# Altium footprint library Diode ss16.PcbLib: 1 footprints
Each footprint in its own frame and in the unit in brackets; x right, y up, seen from the top. Pads: shape width x height; smd on the part's side, far side on the other; paste and mask are expansions set on the pad; w line width, h text height; cw(c..) or ccw(c..) is an arc to the next point about the centre after c.
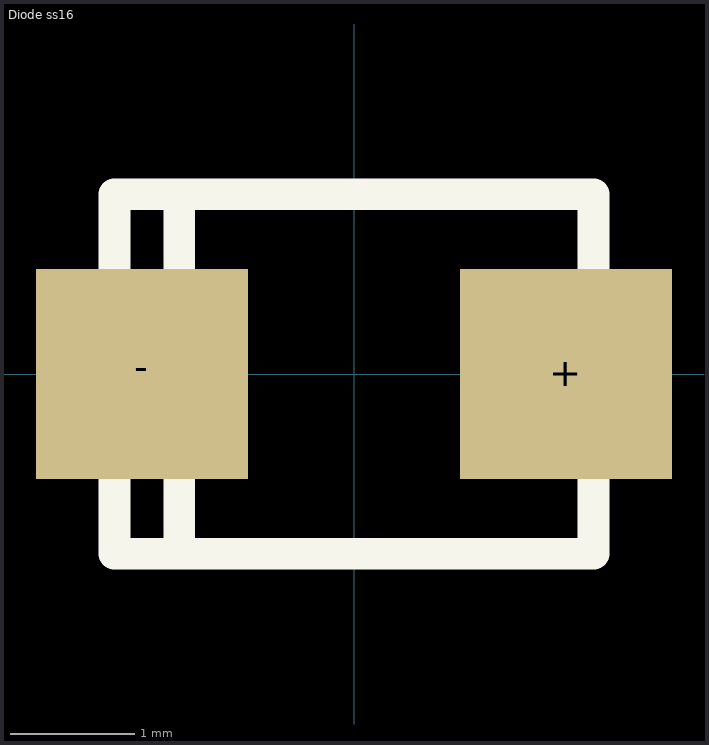
[diagram p0: the footprint, top view; thin cyan lines are the x and y axes]

## Diode ss16 [mm]
height 2.3
pads (2):
  rect 1.7x1.68 smd: +(1.7,0) -(-1.7,0)
Top Overlay:
  lines w0.254: -1.4,-1.4 -1.4,1.44 ; -1.92,-1.44 1.92,-1.44 1.92,1.44 -1.92,1.44 -1.92,-1.44